# Altium footprint library Battery.PcbLib: 1 footprints
Each footprint in its own frame and in the unit in brackets; x right, y up, seen from the top. Pads: shape width x height; smd on the part's side, far side on the other; paste and mask are expansions set on the pad; w line width, h text height; cw(c..) or ccw(c..) is an arc to the next point about the centre after c.
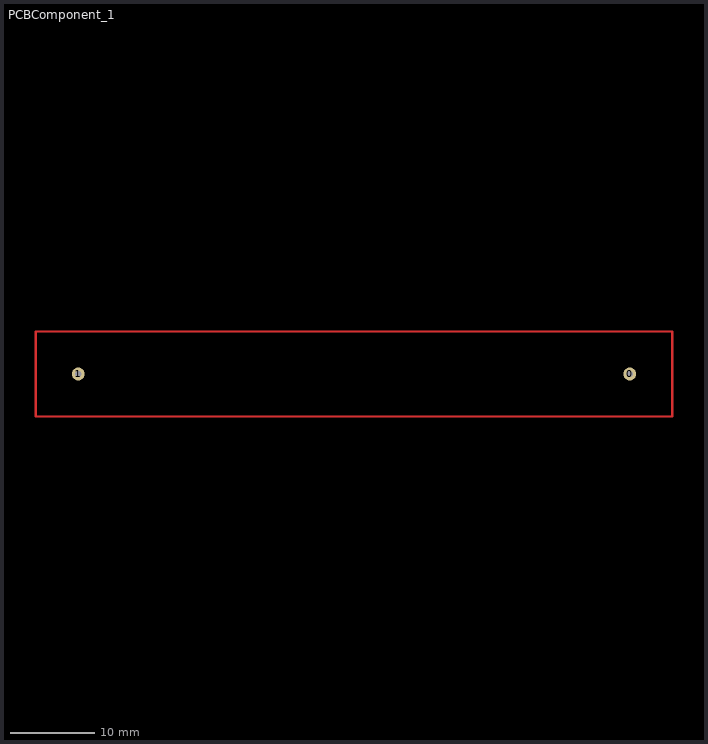
[diagram p0: the footprint, top view; thin cyan lines are the x and y axes]

## PCBComponent_1 [mil]
pads (2):
  round 60 hole 30: 0(-31988.19,-37992.13) 1(-34547.24,-37992.13)
Top Layer:
  lines w10: -34744.09,-38188.98 -34350.39,-38188.98 -32185.04,-38188.98 -31791.34,-38188.98 -31791.34,-37795.28 -32185.04,-37795.28 -34350.39,-37795.28 -34744.09,-37795.28 -34744.09,-38188.98